# EAGLE library part PICO_SMD_DEBUG_HOLES (library RaspberryPi-Pico)
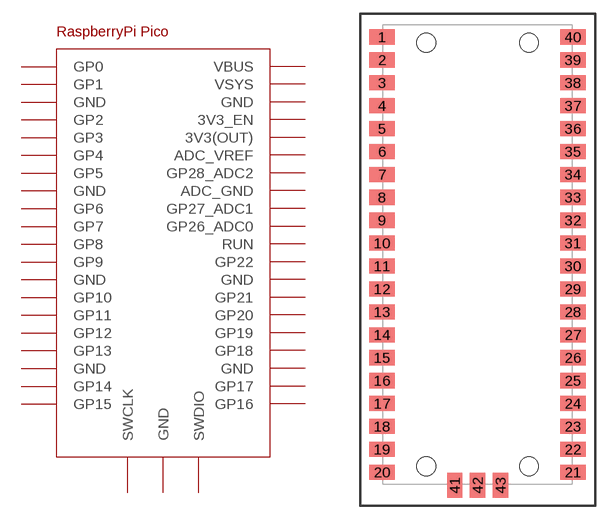
[diagram p2: symbol with the pads of RPI_PICO_SMD_HOLES; footprint RPI_PICO_SMD_HOLES]

Designator prefix U

## PICO_SMD_DEBUG_HOLES (DATASHEET: https://datasheets.raspberrypi.org/pico/pico_datasheet.pdf; DESIGNER: MingwX007; GITHUB: https://github.com/AmornthepYk; MANUFACTURER: RaspberryPi Pico; VALUE: None)  [RPI_PICO_SMD_HOLES]
1  GP0
2  GP1
3  GND
4  GP2
5  GP3
6  GP4
7  GP5
8  GND
9  GP6
10  GP7
11  GP8
12  GP9
13  GND
14  GP10
15  GP11
16  GP12
17  GP13
18  GND
19  GP14
20  GP15
21  GP16
22  GP17
23  GND
24  GP18
25  GP19
26  GP20
27  GP21
28  GND
29  GP22
30  RUN
31  GP26_ADC0
32  GP27_ADC1
33  ADC_GND
34  GP28_ADC2
35  ADC_VREF
36  3V3(OUT)
37  3V3_EN
38  GND
39  VSYS
40  VBUS
41  SWCLK
42  GND
43  SWDIO

## Footprint RPI_PICO_SMD_HOLES (pad centres in mm)
smd 2.8 x 1.676: 1 -10.573,49.624; 2 -10.572,47.085; 3 -10.572,44.545; 4 -10.572,42.005; 5 -10.572,39.465; 6 -10.572,36.925; 7 -10.572,34.385; 8 -10.572,31.845; 9 -10.572,29.305; 10 -10.572,26.765; 11 -10.572,24.225; 12 -10.572,21.685; 13 -10.572,19.145; 14 -10.572,16.605; 15 -10.572,14.065; 16 -10.572,11.525; 17 -10.572,8.985; 18 -10.572,6.445; 19 -10.572,3.905; 20 -10.572,1.365; 21 10.572,1.365; 22 10.572,3.905; 23 10.572,6.445; 24 10.572,8.985; 25 10.572,11.525; 26 10.572,14.065; 27 10.572,16.605; 28 10.572,19.145; 29 10.572,21.685; 30 10.572,24.225; 31 10.572,26.765; 32 10.572,29.305; 33 10.572,31.845; 34 10.572,34.385; 35 10.572,36.925; 36 10.572,39.465; 37 10.572,42.005; 38 10.572,44.545; 39 10.572,47.085; 40 10.572,49.625
smd 1.676 x 2.8: 41 -2.54,-0.083; 42 0,-0.083; 43 2.54,-0.083
hole 2.1 at 5.7,2
hole 2.1 at 5.7,49
hole 2.1 at -5.7,49
hole 2.1 at -5.7,2